# Altium schematic symbol library SCH - POWER - SWITCHMODE - TI LMR23610.SCHLIB: 1 symbol
Pins are listed as number, name and electrical type; pins without a type are passive.

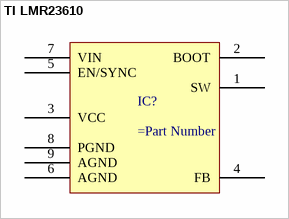
[diagram p0: symbol TI LMR23610]

## TI LMR23610
designator IC?
pins: 1 SW, 2 BOOT, 3 VCC, 4 FB, 5 EN/SYNC, 6 AGND, 7 VIN, 8 PGND, 9 AGND